# EAGLE library part MICRO-SD-CARD (library MyLib)
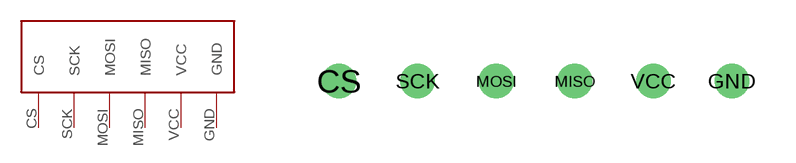
[diagram p3: symbol with the pads of MICRO-SD-CARD; footprint MICRO-SD-CARD]

Designator prefix -

## MICRO-SD-CARD  [MICRO-SD-CARD]
CS  CS
GND  GND
MISO  MISO
MOSI  MOSI
SCK  SCK
VCC  VCC

## Footprint MICRO-SD-CARD (pad centres in mm)
drill 0.61: CS 0,0; GND 12.7,0; MISO 7.62,0; MOSI 5.08,0; SCK 2.54,0; VCC 10.16,0